# EAGLE library part CONN-RECT-6PIN (library CONN_FPD)
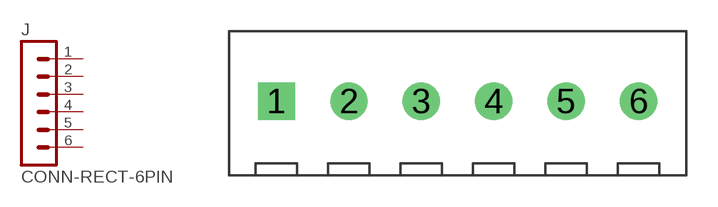
[diagram p0: symbol with the pads of CONN-OSTTE1201X4; footprint CONN-OSTTE1201X4]

Designator prefix J

## CONN-RECT-6PIN  [CONN-OSTTE1201X4]
1  1  pas
2  2  pas
3  3  pas
4  4  pas
5  5  pas
6  6  pas

## Footprint CONN-OSTTE1201X4 (pad centres in mm)
drill 1.2 square: 1 -8.758,0
drill 1.2: 2 -5.258,0; 3 -1.758,0; 4 1.742,0; 5 5.242,0; 6 8.742,0